# Altium schematic symbol library SW_SLIDE.SchLib: 1 symbol
Pins are listed as number, name and electrical type; pins without a type are passive.

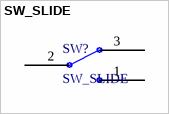
[diagram p0: symbol SW_SLIDE]

## SW_SLIDE
designator SW?
footprint SW_SLIDE
pins: 1, 2, 3